# Altium footprint library TE_1-640456-2.PcbLib: 1 footprints
Each footprint in its own frame and in the unit in brackets; x right, y up, seen from the top. Pads: shape width x height; smd on the part's side, far side on the other; paste and mask are expansions set on the pad; w line width, h text height; cw(c..) or ccw(c..) is an arc to the next point about the centre after c.
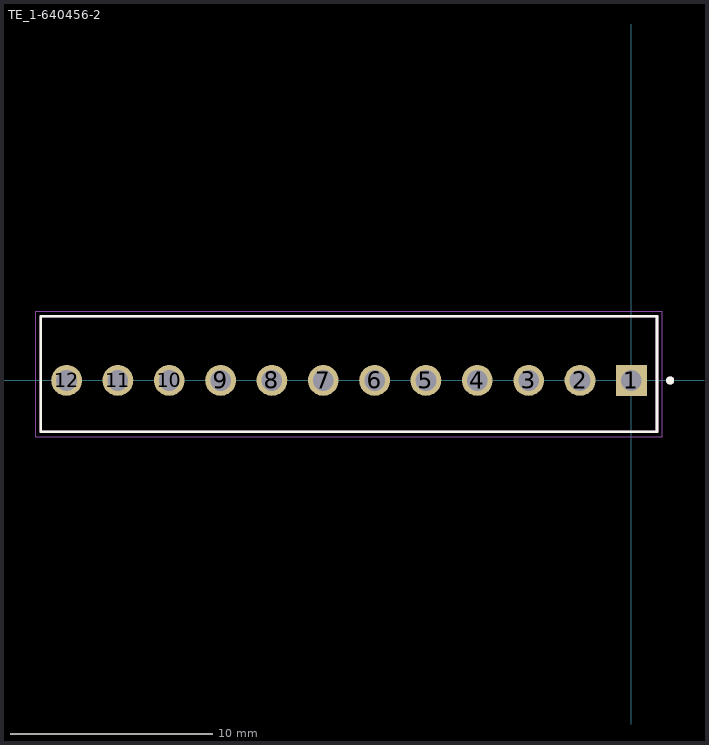
[diagram p0: the footprint, top view; thin cyan lines are the x and y axes]

## TE_1-640456-2 [mil]
pads (12):
  rect 60x60 hole 40.16: 1(0,0)
  round 60 hole 40.16 paste-99999: 2(-100,0)
  round 60 hole 40.16: 3(-200,0) 4(-300,0) 5(-400,0) 6(-500,0) 7(-600,0) 8(-700,0) 9(-800,0) 10(-900,0) 11(-1000,0) 12(-1100,0)
Top Overlay:
  circle w7.87: c75.59,0 r3.94
  lines w5: -1150,-100 -1150,125.2 50,125.2 50,-100 -1150,-100
Mechanical 13:
  circle w7.87: c75.59,0 r3.94
  lines w5: -1150,-100 -1150,125.2 ; -1150,-100 50,-100 ; -1150,-100 -1150,125.2 ; -1150,125.2 50,125.2 ; -1150,125.2 50,125.2 ; 50,-100 50,125.2 ; 50,-100 50,125.2
Mechanical 15:
  lines w1.97: -1159.84,-109.84 -1159.84,135.04 59.84,135.04 59.84,-109.84 -1159.84,-109.84
3D body "1-640456-2.stp": height 395, standoff -140, extent -1150,-102.5 50,127.5